# Altium footprint library PcbLib1.PcbLib: 34 footprints (part 1 of 3)
Each footprint in its own frame and in the unit in brackets; x right, y up, seen from the top. Pads: shape width x height; smd on the part's side, far side on the other; paste and mask are expansions set on the pad; w line width, h text height; cw(c..) or ccw(c..) is an arc to the next point about the centre after c.
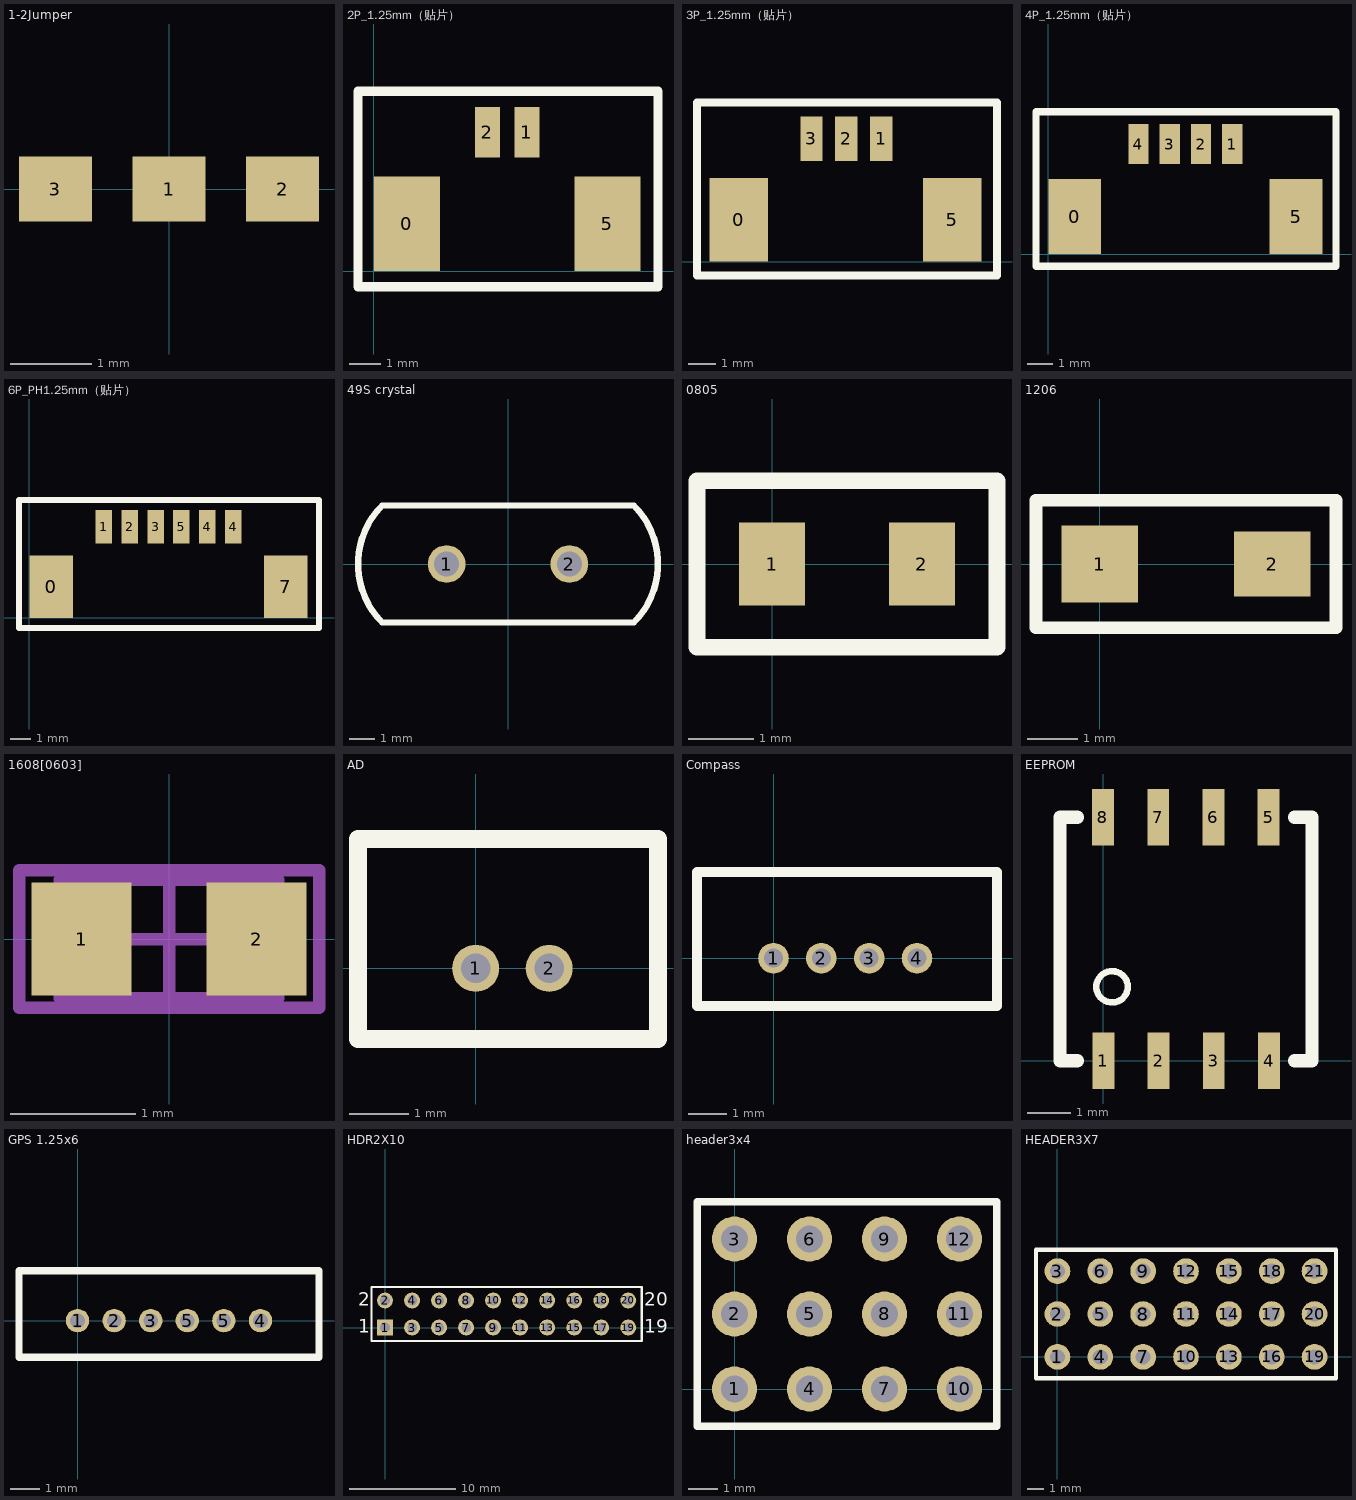
[diagram p0: the footprints below, top view; thin cyan lines are the x and y axes]

## 1-2Jumper [mm]
pads (3):
  rect 0.9x0.8 smd: 1(0,0) 2(1.4,0) 3(-1.4,0)

## 2P_1.25mm（贴片） [mm]
pads (4):
  rect 2.1x3 smd: 0(1.05,1.5) 5(7.4,1.5)
  rect 0.8x1.6 smd: 1(4.85,4.4) 2(3.6,4.4)
Top Overlay:
  lines w0.3: -0.5,-0.5 -0.5,5.7 9,5.7 9,-0.5 -0.5,-0.5

## 3P_1.25mm（贴片） [mm]
pads (5):
  rect 2.1x3 smd: 0(2.25,1.5) 5(9.9,1.5)
  rect 0.8x1.6 smd: 1(7.35,4.4) 2(6.1,4.4) 3(4.85,4.4)
Top Overlay:
  lines w0.3: 0.75,-0.5 11.5,-0.5 11.5,5.7 0.75,5.7 0.75,-0.5

## 4P_1.25mm（贴片） [mm]
pads (6):
  rect 2.1x3 smd: 0(1.05,1.5) 5(9.9,1.5)
  rect 0.8x1.6 smd: 1(7.35,4.4) 2(6.1,4.4) 3(4.85,4.4) 4(3.6,4.4)
Top Overlay:
  lines w0.3: -0.5,-0.5 11.5,-0.5 11.5,5.7 -0.5,5.7 -0.5,-0.5

## 6P_PH1.25mm（贴片） [mm]
pads (8):
  rect 2.1x3 smd: 0(1.05,1.5) 7(12.4,1.5)
  rect 0.8x1.6 smd: 1(3.6,4.4) 2(4.85,4.4) 3(6.1,4.4) 4(8.6,4.4) 4(9.85,4.4) 5(7.35,4.4)
Top Overlay:
  lines w0.3: -0.5,-0.5 -0.5,5.7 14,5.7 14,-0.5 -0.5,-0.5

## 49S crystal [mm]
pads (2):
  round 1.5 hole 1: 1(-2.44,0) 2(2.44,0)
Top Overlay:
  lines w0.254: -5,-2.325 cw(c-2.675,0) -5,2.325 5,2.325 cw(c2.675,0) 5,-2.325 -5,-2.325

## 0805 [mm]
pads (2):
  rect 1x1.27 smd: 1(0,0) 2(2.286,0)
Top Overlay:
  lines w0.254: -1.143,-1.27 3.429,-1.27 3.429,1.27 -1.143,1.27 -1.143,-1.27

## 1206 [mil]
pads (2):
  rect 60x60 smd: 1(0,0)
  rect 60x51.18 smd: 2(135,0)
Top Overlay:
  lines w10: -50,-50 -50,50 185,50 185,-50 -50,-50

## 1608[0603] [mm] "Chip Capacitor, Body 1.6x0.8mm, IPC High Density"
height 1.3
pads (2):
  rect 0.8x0.9 smd: 1(-0.7,0) 2(0.7,0)
Mechanical 13:
  lines w0.1: -0.875,-0.475 0.875,-0.475 0.875,0.475 -0.875,0.475 -0.875,-0.475
Mechanical 15:
  lines w0.1: -0.475,0 0.475,0 ; 0,-0.475 0,0.475 ; -1.2,-0.55 1.2,-0.55 1.2,0.55 -1.2,0.55 -1.2,-0.55
3D body: height 1.3, standoff 0, extent -0.875,-0.475 0.875,0.475

## AD [mm]
pads (2):
  round 0.8 hole 0.5: 1(0,0) 2(1.25,0)
Top Overlay:
  lines w0.3: -2,-1.2 -2,1.5 -2,2.2 3.1,2.2 3.1,1.5 3.1,-1.2 -2,-1.2

## Compass [mm]
pads (4):
  round 0.8 hole 0.5: 1(0,0) 2(1.25,0) 3(2.5,0) 4(3.75,0)
Top Overlay:
  lines w0.254: -2,-1.25 -2,0 -2,2 -2,2.25 5.842,2.25 5.842,-1.25 -2,-1.25

## EEPROM [mm]
pads (8):
  rect 0.5x1.3 smd: 1(0,0) 2(1.27,0) 3(2.54,0) 4(3.81,0) 5(3.8,5.6) 6(2.53,5.6) 7(1.26,5.6) 8(-0.01,5.6)
Top Overlay:
  circle w0.15: c0.2,1.7 r0.361
  lines w0.3: -0.6,0 -1,0 -1,0.5 -1,5.1 -1,5.6 -0.6,5.6 ; 4.4,0 4.8,0 4.8,0.5 4.8,5.1 ; 4.4,5.6 4.8,5.6 ; 4.8,5.1 4.8,5.1 ; 4.8,5.1 4.8,5.6 ; 4.8,5.6 4.8,5.6

## GPS 1.25x6 [mm]
pads (6):
  round 0.8 hole 0.5: 1(0,0) 2(1.25,0) 3(2.5,0) 4(6.25,0) 5(3.75,0) 5(5,0)
Top Overlay:
  lines w0.254: -2,-1.25 8.25,-1.25 8.25,-1 8.25,1.7 -2,1.7 -2,0 -2,-1.25

## HDR2X10 [mm] "Connector; Header; 10x2 Position"
pads (20):
  rect 1.5x1.5 hole 0.9: 1(0,0)
  round 1.5 hole 0.9: 2(0,2.54) 3(2.54,0) 4(2.54,2.54) 5(5.08,0) 6(5.08,2.54) 7(7.62,0) 8(7.62,2.54) 9(10.16,0) 10(10.16,2.54) 11(12.7,0) 12(12.7,2.54) 13(15.24,0) 14(15.24,2.54) 15(17.78,0) 16(17.78,2.54) 17(20.32,0) 18(20.32,2.54) 19(22.86,0) 20(22.86,2.54)
Top Overlay:
  lines w0.2: -1.27,-1.27 0.635,-1.27 24.13,-1.27 24.13,3.81 0.635,3.81 -1.27,3.81 -1.27,-1.27
  text "20" at 24.384,2.032 h1.27
  text "19" at 24.384,-0.508 h1.27
  text "1" at -2.54,-0.508 h1.27
  text "2" at -2.54,2.032 h1.27

## header3x4 [mil]
pads (12):
  round 60 hole 35.43: 1(0,0) 2(0,100) 3(0,200) 4(100,0) 5(100,100) 6(100,200) 7(200,0) 8(200,100) 9(200,200) 10(300,0) 11(300,100) 12(300,200)
Top Overlay:
  lines w10: -50,-50 -50,250 350,250 350,-50 -50,-50

## HEADER3X7 [mil]
pads (21):
  round 60 hole 35.43: 1(0,0) 2(0,100) 3(0,200) 4(100,0) 5(100,100) 6(100,200) 7(200,0) 8(200,100) 9(200,200) 10(300,0) 11(300,100) 12(300,200) 13(400,0) 14(400,100) 15(400,200) 16(500,0) 17(500,100) 18(500,200) 19(600,0) 20(600,100) 21(600,200)
Top Overlay:
  lines w10: -50,-50 650,-50 650,250 -50,250 -50,-50